# Altium schematic symbol library PTC Resettable.SchLib: 1 symbol
Pins are listed as number, name and electrical type; pins without a type are passive.

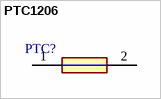
[diagram p0: symbol PTC1206]

## PTC1206
designator PTC?
Polymeric PTC Resettable Fuse 6V 1 A Ih Surface Mount 1206 (3216 Metric); Manufacturer 1: Eaton; Manufacturer Part Number 1: *; Value: *; Package: *; Supplier 1: *; Supplier Part Number 1: *
footprint PTC1206
pins: 1, 2